# Altium footprint library Supernova Inductors.PcbLib: 56 footprints (part 1 of 4)
Each footprint in its own frame and in the unit in brackets; x right, y up, seen from the top. Pads: shape width x height; smd on the part's side, far side on the other; paste and mask are expansions set on the pad; w line width, h text height; cw(c..) or ccw(c..) is an arc to the next point about the centre after c.
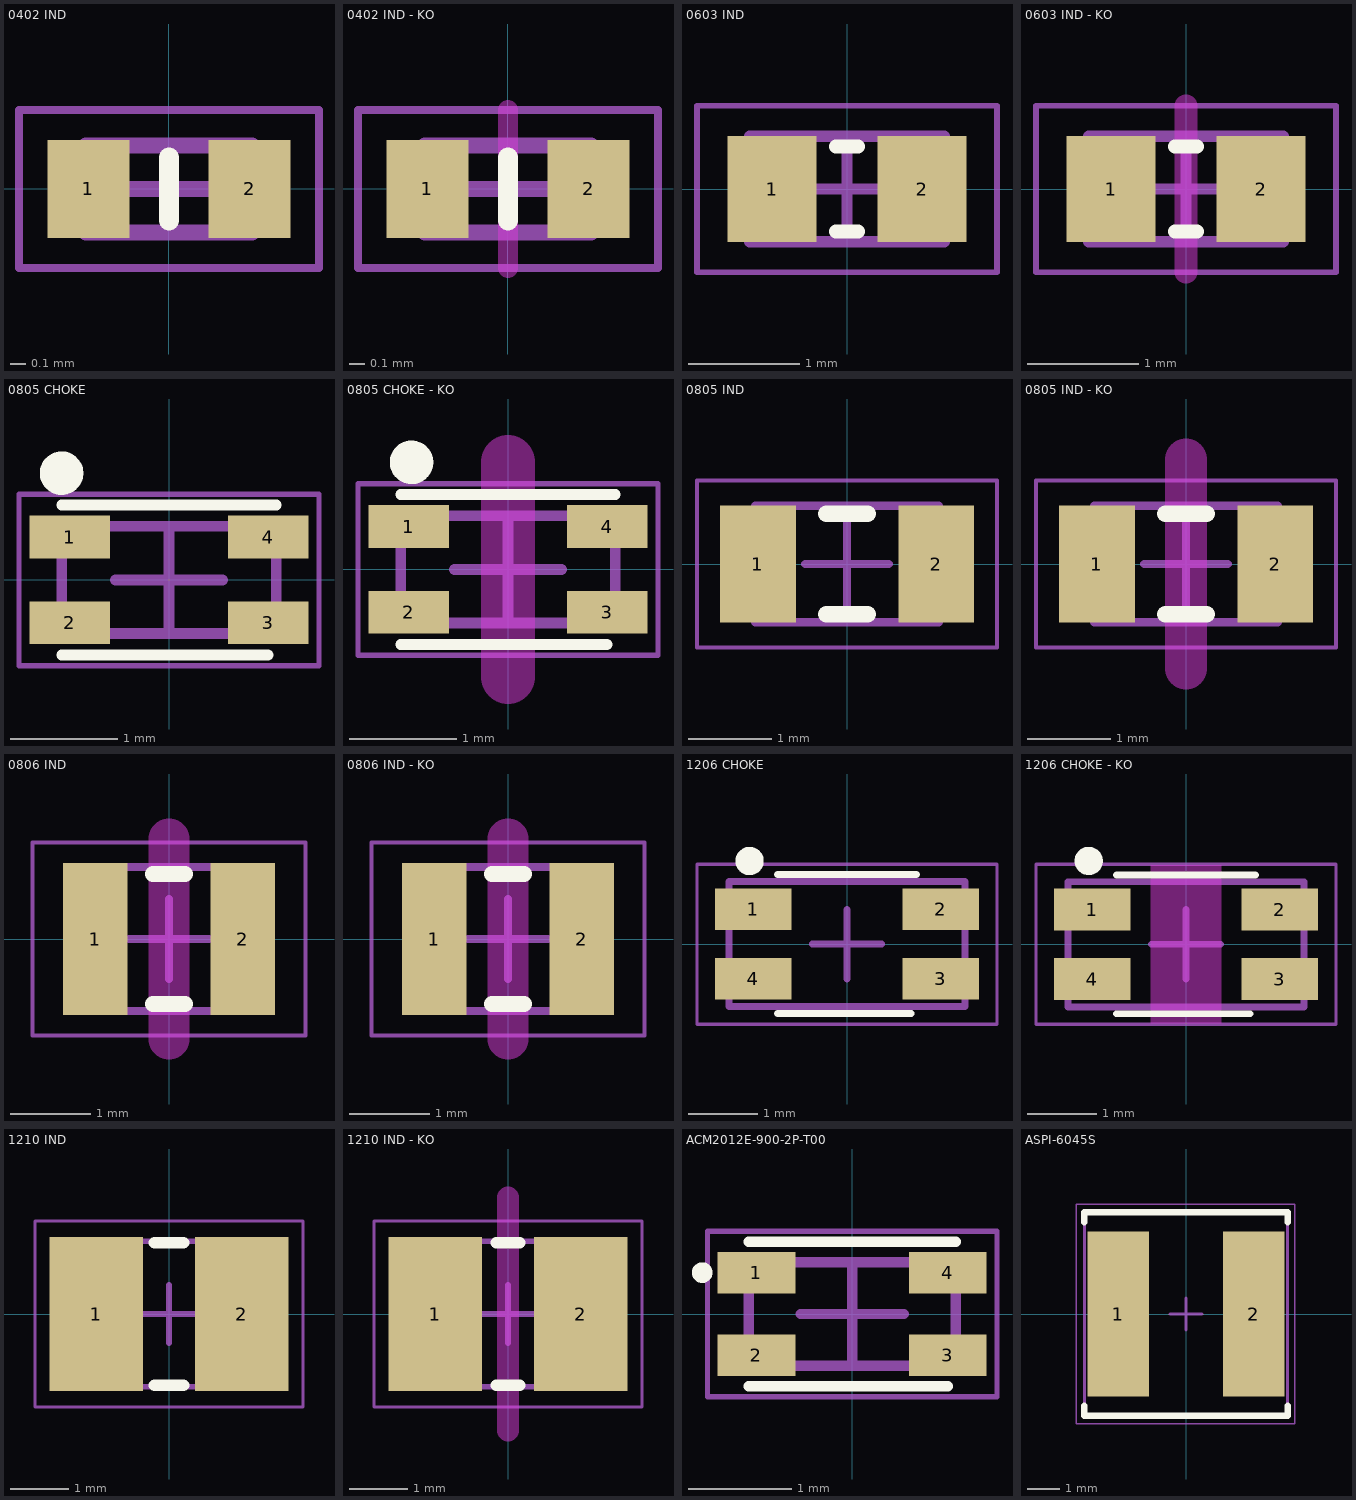
[diagram p0: the footprints below, top view; thin cyan lines are the x and y axes]

## 0402 IND [mm] "Chip Capacitor, 2-Leads, Body 1.00x0.50mm, IPC Medium Density"
height 0.55
pads (2):
  rect 0.52x0.62 smd mask+0.051: 1(-0.51,0) 2(0.51,0)
Top Overlay:
  lines w0.127: 0,-0.2 0,0.2
Top 3D Body (Mech13):
  lines w0.1: -0.525,-0.275 -0.525,0.275 0.525,0.275 0.525,-0.275 -0.525,-0.275
Top Courtyard:
  lines w0.05: -0.95,-0.5 -0.95,0.5 0.95,0.5 0.95,-0.5 -0.95,-0.5
  lines w0.1: -0.275,0 0.275,0 ; 0,-0.275 0,0.275
3D body: height 0.4, standoff 0, extent -0.525,-0.275 -0.295,0.275
3D body: height 0.4, standoff 0, extent 0.295,-0.275 0.525,0.275
3D body: height 0.4, standoff 0, extent -0.295,-0.275 0.295,0.275

## 0402 IND - KO [mm] "Chip Capacitor, 2-Leads, Body 1.00x0.50mm, IPC Medium Density"
height 0.55
pads (2):
  rect 0.52x0.62 smd mask+0.051: 1(-0.51,0) 2(0.51,0)
Top Overlay:
  lines w0.127: 0,-0.2 0,0.2
Keep-Out Layer:
  lines w0.127: 0,-0.5 0,0.5
Top 3D Body (Mech13):
  lines w0.1: -0.525,-0.275 0.525,-0.275 0.525,0.275 -0.525,0.275 -0.525,-0.275
Top Courtyard:
  lines w0.05: -0.95,-0.5 0.95,-0.5 0.95,0.5 -0.95,0.5 -0.95,-0.5
  lines w0.1: -0.275,0 0.275,0 ; 0,-0.275 0,0.275
3D body: height 0.4, standoff 0, extent -0.295,-0.275 0.295,0.275
3D body: height 0.4, standoff 0, extent 0.295,-0.275 0.525,0.275
3D body: height 0.4, standoff 0, extent -0.525,-0.275 -0.295,0.275

## 0603 IND [mm] "Chip Inductor, 2-Leads, Body 1.60x0.85mm, IPC Medium Density"
height 0.55
pads (2):
  rect 0.8x0.95 smd: 1(-0.675,0) 2(0.675,0)
Top Overlay:
  lines w0.127: -0.1,-0.381 0.1,-0.381 ; -0.1,0.381 0.1,0.381
Top 3D Body (Mech13):
  lines w0.1: -0.875,-0.475 -0.875,0.475 0.875,0.475 0.875,-0.475 -0.875,-0.475
Top Courtyard:
  lines w0.05: -1.35,-0.75 -1.35,0.75 1.35,0.75 1.35,-0.75 -1.35,-0.75
  lines w0.1: -0.475,0 0.475,0 ; 0,-0.475 0,0.475
3D body: height 0.55, standoff 0, extent -0.575,-0.475 0.575,0.475
3D body: height 0.55, standoff 0, extent -0.875,-0.475 -0.575,0.475
3D body: height 0.55, standoff 0, extent 0.575,-0.475 0.875,0.475

## 0603 IND - KO [mm] "Chip Inductor, 2-Leads, Body 1.60x0.85mm, IPC Medium Density"
height 0.55
pads (2):
  rect 0.8x0.95 smd: 1(-0.675,0) 2(0.675,0)
Top Overlay:
  lines w0.127: -0.1,-0.381 0.1,-0.381 ; -0.1,0.381 0.1,0.381
Keep-Out Layer:
  lines w0.203: 0,-0.75 0,0.75
Top 3D Body (Mech13):
  lines w0.1: -0.875,-0.475 0.875,-0.475 0.875,0.475 -0.875,0.475 -0.875,-0.475
Top Courtyard:
  lines w0.05: -1.35,-0.75 1.35,-0.75 1.35,0.75 -1.35,0.75 -1.35,-0.75
  lines w0.1: -0.475,0 0.475,0 ; 0,-0.475 0,0.475
3D body: height 0.55, standoff 0, extent 0.575,-0.475 0.875,0.475
3D body: height 0.55, standoff 0, extent -0.875,-0.475 -0.575,0.475
3D body: height 0.55, standoff 0, extent -0.575,-0.475 0.575,0.475

## 0805 CHOKE [mm]
height 1
pads (4):
  rect 0.75x0.4 smd mask+0.025: 1(-0.925,0.4) 2(-0.925,-0.4) 3(0.925,-0.4) 4(0.925,0.4)
Top Overlay:
  circle w0.203: c-1.002,0.996 r0.102
  lines w0.1: -1,-0.7 0.925,-0.7 ; -1,0.7 1,0.7
Top 3D Body (Mech13):
  lines w0.1: -1,-0.5 1,-0.5 1,0.5 -1,0.5 -1,-0.5
Top Courtyard:
  lines w0.05: -1.4,-0.8 1.4,-0.8 1.4,0.8 -1.4,0.8 -1.4,-0.8
  lines w0.1: -0.5,0 0.5,0 ; 0,-0.5 0,0.5
3D body: height 1, standoff 0, extent -1,-0.5 1,0.5

## 0805 CHOKE - KO [mm]
height 1
pads (4):
  rect 0.75x0.4 smd mask+0.025: 1(-0.925,0.4) 2(-0.925,-0.4) 3(0.925,-0.4) 4(0.925,0.4)
Top Overlay:
  circle w0.203: c-0.9,1 r0.102
  lines w0.1: -1,-0.7 0.925,-0.7 ; -1,0.7 1,0.7
Keep-Out Layer:
  lines w0.508: 0,-1 0,1
Top 3D Body (Mech13):
  lines w0.1: -1,-0.5 1,-0.5 1,0.5 -1,0.5 -1,-0.5
Top Courtyard:
  lines w0.05: -1.4,-0.8 1.4,-0.8 1.4,0.8 -1.4,0.8 -1.4,-0.8
  lines w0.1: -0.5,0 0.5,0 ; 0,-0.5 0,0.5
3D body: height 1, standoff 0, extent -1,-0.5 1,0.5

## 0805 IND [mm] "Chip Inductor, 2-Leads, Body 2.05x1.25mm, IPC Medium Density"
height 1
pads (2):
  rect 0.91x1.41 smd: 1(-1.07,0) 2(1.07,0)
Top Overlay:
  lines w0.2: -0.25,-0.605 0.25,-0.605 ; -0.25,0.605 0.25,0.605
Top 3D Body (Mech13):
  lines w0.1: -1.1,-0.7 -1.1,0.7 1.1,0.7 1.1,-0.7 -1.1,-0.7
Top Courtyard:
  lines w0.05: -1.8,-1 -1.8,1 1.8,1 1.8,-1 -1.8,-1
  lines w0.1: -0.5,0 0.5,0 ; 0,-0.5 0,0.5
3D body: height 1, standoff 0, extent -0.75,-0.7 0.75,0.7
3D body: height 1, standoff 0, extent -1.1,-0.7 -0.75,0.7
3D body: height 1, standoff 0, extent 0.75,-0.7 1.1,0.7

## 0805 IND - KO [mm] "Chip Inductor, 2-Leads, Body 2.05x1.25mm, IPC Medium Density"
height 1
pads (2):
  rect 0.91x1.41 smd: 1(-1.07,0) 2(1.07,0)
Top Overlay:
  lines w0.2: -0.25,-0.605 0.25,-0.605 ; -0.25,0.605 0.25,0.605
Keep-Out Layer:
  lines w0.508: 0,-1.25 0,1.25
Top 3D Body (Mech13):
  lines w0.1: -1.1,-0.7 -1.1,0.7 1.1,0.7 1.1,-0.7 -1.1,-0.7
Top Courtyard:
  lines w0.05: -1.8,-1 -1.8,1 1.8,1 1.8,-1 -1.8,-1
  lines w0.1: -0.5,0 0.5,0 ; 0,-0.5 0,0.5
3D body: height 1, standoff 0, extent -0.75,-0.7 0.75,0.7
3D body: height 1, standoff 0, extent -1.1,-0.7 -0.75,0.7
3D body: height 1, standoff 0, extent 0.75,-0.7 1.1,0.7

## 0806 IND [mm] "Chip Inductor, 2-Leads, Body 2.00x1.60mm, IPC Medium Density"
height 1
pads (2):
  rect 0.8x1.9 smd: 1(-0.92,0) 2(0.92,0)
Top Overlay:
  lines w0.2: -0.2,-0.81 0.2,-0.81 ; -0.2,0.81 0.2,0.81
Keep-Out Layer:
  lines w0.508: 0,-1.25 0,1.25
Top 3D Body (Mech13):
  lines w0.1: -1.1,-0.9 1.1,-0.9 1.1,0.9 -1.1,0.9 -1.1,-0.9
Top Courtyard:
  lines w0.05: -1.7,-1.2 1.7,-1.2 1.7,1.2 -1.7,1.2 -1.7,-1.2
  lines w0.1: -0.5,0 0.5,0 ; 0,-0.5 0,0.5
3D body: height 1, standoff 0, extent 0.6,-0.9 1.1,0.9
3D body: height 1, standoff 0, extent -1.1,-0.9 -0.6,0.9
3D body: height 1, standoff 0, extent -0.6,-0.9 0.6,0.9

## 0806 IND - KO [mm] "Chip Inductor, 2-Leads, Body 2.00x1.60mm, IPC Medium Density"
height 1
pads (2):
  rect 0.8x1.9 smd: 1(-0.92,0) 2(0.92,0)
Top Overlay:
  lines w0.2: -0.2,-0.81 0.2,-0.81 ; -0.2,0.81 0.2,0.81
Keep-Out Layer:
  lines w0.508: 0,-1.25 0,1.25
Top 3D Body (Mech13):
  lines w0.1: -1.1,-0.9 -1.1,0.9 1.1,0.9 1.1,-0.9 -1.1,-0.9
Top Courtyard:
  lines w0.05: -1.7,-1.2 -1.7,1.2 1.7,1.2 1.7,-1.2 -1.7,-1.2
  lines w0.1: -0.5,0 0.5,0 ; 0,-0.5 0,0.5
3D body: height 1, standoff 0, extent -0.6,-0.9 0.6,0.9
3D body: height 1, standoff 0, extent -1.1,-0.9 -0.6,0.9
3D body: height 1, standoff 0, extent 0.6,-0.9 1.1,0.9

## 1206 CHOKE [mm] "DFN, 4-Leads, Body 1.60x3.20mm, Pitch 2.50mm, IPC Medium Density"
height 2
pads (4):
  rect 1.1x0.6 smd: 1(-1.35,0.5) 2(1.35,0.5) 3(1.35,-0.5) 4(-1.35,-0.5)
Top Overlay:
  circle w0.203: c-1.402,1.196 r0.102
  lines w0.1: -1,-1 0.925,-1 ; -1,1 1,1
Top 3D Body (Mech13):
  lines w0.1: -1.7,-0.9 -1.7,0.9 1.7,0.9 1.7,-0.9 -1.7,-0.9
Top Courtyard:
  lines w0.05: -2.159,-1.15 -2.159,1.15 2.159,1.15 2.159,-1.15 -2.159,-1.15
  lines w0.1: -0.5,0 0.5,0 ; 0,-0.5 0,0.5
3D body: height 2, standoff 0, extent -1.7,-0.9 1.7,0.9

## 1206 CHOKE - KO [mm] "DFN, 4-Leads, Body 1.60x3.20mm, Pitch 2.50mm, IPC Medium Density"
height 2
pads (4):
  rect 1.1x0.6 smd: 1(-1.35,0.5) 2(1.35,0.5) 3(1.35,-0.5) 4(-1.35,-0.5)
Top Overlay:
  circle w0.203: c-1.4,1.2 r0.102
  lines w0.1: -1,-1 0.925,-1 ; -1,1 1,1
Keep-Out Layer:
  rectangle: -0.508,-1.143 0.508,1.143
Top 3D Body (Mech13):
  lines w0.1: -1.7,-0.9 -1.7,0.9 1.7,0.9 1.7,-0.9 -1.7,-0.9
Top Courtyard:
  lines w0.05: -2.159,-1.15 -2.159,1.15 2.159,1.15 2.159,-1.15 -2.159,-1.15
  lines w0.1: -0.5,0 0.5,0 ; 0,-0.5 0,0.5
3D body: height 2, standoff 0, extent -1.7,-0.9 1.7,0.9

## 1210 IND [mm] "Chip Capacitor, 2-Leads, Body 3.20x2.50mm, IPC Medium Density"
height 2.5
pads (2):
  rect 1.6x2.65 smd paste-0.2: 1(-1.25,0) 2(1.25,0)
Top Overlay:
  lines w0.2: -0.25,-1.225 0.25,-1.225 ; -0.25,1.225 0.25,1.225
Top 3D Body (Mech13):
  lines w0.1: -1.6,-1.25 1.6,-1.25 1.6,1.25 -1.6,1.25 -1.6,-1.25
Top Courtyard:
  lines w0.05: -2.3,-1.6 2.3,-1.6 2.3,1.6 -2.3,1.6 -2.3,-1.6
  lines w0.1: -0.5,0 0.5,0 ; 0,-0.5 0,0.5
3D body: height 0.5, standoff 0, extent 0.7,-1.25 1.6,1.25
3D body: height 0.5, standoff 0, extent -1.6,-1.25 -0.7,1.25
3D body: height 0.5, standoff 0, extent -0.7,-1.25 0.7,1.25
3D body: height 1.55, standoff 0.5, extent -1.24,-1.248 1.25,1.248

## 1210 IND - KO [mm] "Chip Capacitor, 2-Leads, Body 3.20x2.50mm, IPC Medium Density"
height 2.5
pads (2):
  rect 1.6x2.65 smd paste-0.2: 1(-1.25,0) 2(1.25,0)
Top Overlay:
  lines w0.2: -0.2,-1.225 0.2,-1.225 ; -0.2,1.225 0.2,1.225
Keep-Out Layer:
  lines w0.381: 0,-2 0,2
Top 3D Body (Mech13):
  lines w0.1: -1.6,-1.25 -1.6,1.25 1.6,1.25 1.6,-1.25 -1.6,-1.25
Top Courtyard:
  lines w0.05: -2.3,-1.6 -2.3,1.6 2.3,1.6 2.3,-1.6 -2.3,-1.6
  lines w0.1: -0.5,0 0.5,0 ; 0,-0.5 0,0.5
3D body: height 1.55, standoff 0.5, extent -1.24,-1.248 1.25,1.248
3D body: height 0.5, standoff 0, extent -0.7,-1.25 0.7,1.25
3D body: height 0.5, standoff 0, extent -1.6,-1.25 -0.7,1.25
3D body: height 0.5, standoff 0, extent 0.7,-1.25 1.6,1.25

## ACM2012E-900-2P-T00 [mm]
pads (4):
  rect 0.75x0.4 smd mask+0.025: 1(-0.925,0.4) 2(-0.925,-0.4) 3(0.925,-0.4) 4(0.925,0.4)
Top Overlay:
  circle w0.1: c-1.45,0.4 r0.05
  lines w0.1: -1,-0.7 0.925,-0.7 ; -1,0.7 1,0.7
Top 3D Body (Mech13):
  lines w0.1: -1,-0.5 1,-0.5 1,0.5 -1,0.5 -1,-0.5
Top Courtyard:
  lines w0.05: -1.4,-0.8 1.4,-0.8 1.4,0.8 -1.4,0.8 -1.4,-0.8
  lines w0.1: -0.5,0 0.5,0 ; 0,-0.5 0,0.5
3D body: height 1, standoff 0, extent -1,-0.5 1,0.5

## ASPI-6045S [mm] "Precision Wire Wound Inductor, 2-Leads, Body 6.00x6.00mm, IPC Medium Density"
height 4.5
pads (2):
  rect 1.9x5.1 smd paste-0.2: 1(-2.1,0) 2(2.1,0)
Top Overlay:
  lines w0.2: -3.15,-2.85 -3.15,-3.15 3.15,-3.15 3.15,-2.85 ; -3.15,2.85 -3.15,3.15 3.15,3.15 3.15,2.85
Top 3D Body (Mech13):
  lines w0.1: -3.15,-3.15 3.15,-3.15 3.15,3.15 -3.15,3.15 -3.15,-3.15
Top Courtyard:
  lines w0.05: -3.4,-3.4 3.375,-3.4 3.375,3.4 -3.4,3.4 -3.4,-3.4
  lines w0.1: -0.5,0 0.5,0 ; 0,-0.5 0,0.5
3D body "vls6045af.step": height 4.49, standoff -0.01, extent -3,-3 3,3